# Altium footprint library KAL25FB10R0.PcbLib: 1 footprints
Each footprint in its own frame and in the unit in brackets; x right, y up, seen from the top. Pads: shape width x height; smd on the part's side, far side on the other; paste and mask are expansions set on the pad; w line width, h text height; cw(c..) or ccw(c..) is an arc to the next point about the centre after c.
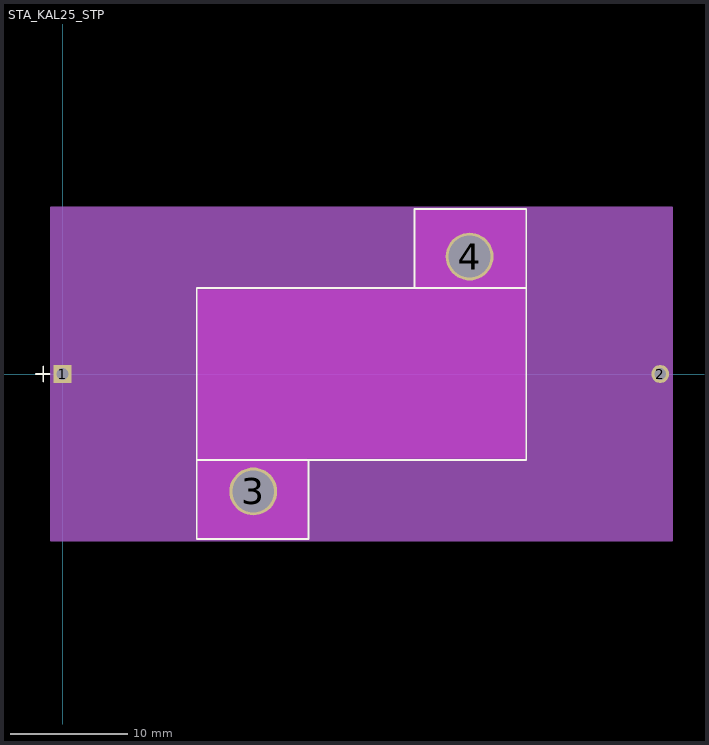
[diagram p0: the footprint, top view; thin cyan lines are the x and y axes]

## STA_KAL25_STP [mil]
pads (4):
  rect 60x60 hole 40 paste-30 mask+0: 1(0,0)
  round 60 hole 40 paste-30 mask+0: 2(2000,0)
  round 160 hole 140 unplated: 3(638,-393) 4(1362,393)
Top Layer keep-out:
  region: 453.5,-282.5 453.5,282.5 1546.5,282.5 1546.5,-282.5
  region: 817.5,-282.5 453.5,-282.5 453.5,-547.5 817.5,-547.5
  region: 1182.5,282.5 1546.5,282.5 1546.5,547.5 1182.5,547.5
Top Overlay:
  lines w6: -90,0 -43.1,0 ; -65,-25 -65,25 ; 822.5,-287.5 822.5,-552.5 448.5,-552.5 448.5,-287.5 ; 1177.5,287.5 1177.5,552.5 1551.5,552.5 1551.5,287.5 ; 448.5,-287.5 1551.5,-287.5 1551.5,287.5 ; 448.5,-287.5 448.5,287.5 1551.5,287.5
  text ".Designator" at 862.5,-25 h50
Mechanical 13:
  lines w1: -90,0 -40,0 ; -65,-25 -65,25 ; 453.5,-20 0,-20 0,20 453.5,20 ; 817.5,-282.5 817.5,-547.5 453.5,-547.5 453.5,-282.5 ; 1182.5,282.5 1182.5,547.5 1546.5,547.5 1546.5,282.5 ; 1546.5,-20 2000,-20 2000,20 1546.5,20 ; 453.5,-282.5 1546.5,-282.5 1546.5,282.5 ; 453.5,-282.5 453.5,282.5 1546.5,282.5
  text ".Designator" at 862.5,-25 h50
Mechanical 15:
  region: 2040,-557.5 -40,-557.5 -40,557.5 2040,557.5
  lines w6: -40,-557.5 -40,557.5 2040,557.5 2040,-557.5 -40,-557.5